# EAGLE library part ATX-PWR (library me)
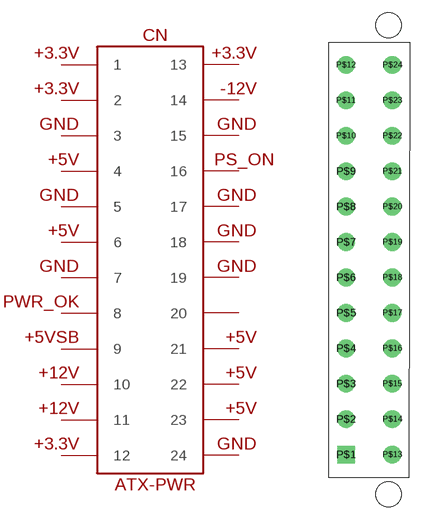
[diagram p1: symbol with the pads of ATX-PS; footprint ATX-PS]

Designator prefix CN

## ATX-PWR  [ATX-PS]
P$1  1
P$2  2
P$3  3
P$4  4
P$5  5
P$6  6
P$7  7
P$8  8
P$9  9
P$10  10
P$11  11
P$12  12
P$13  13
P$14  14
P$15  15
P$16  16
P$17  17
P$18  18
P$19  19
P$20  20
P$21  21
P$22  22
P$23  23
P$24  24

## Footprint ATX-PS (pad centres in mm)
drill 1.4 square: P$1 -2.1,-23.1
drill 1.4: P$2 -2.1,-18.9; P$3 -2.1,-14.7; P$4 -2.1,-10.5; P$5 -2.1,-6.3; P$6 -2.1,-2.1; P$7 -2.1,2.1; P$8 -2.1,6.3; P$9 -2.1,10.5; P$10 -2.1,14.7; P$11 -2.1,18.9; P$12 -2.1,23.1; P$13 3.4,-23.1; P$14 3.4,-18.9; P$15 3.4,-14.7; P$16 3.4,-10.5; P$17 3.4,-6.3; P$18 3.4,-2.1; P$19 3.4,2.1; P$20 3.4,6.3; P$21 3.4,10.5; P$22 3.4,14.7; P$23 3.4,18.9; P$24 3.4,23.1
hole 3 at 2.94,27.8
hole 3 at 2.94,-27.8